# Altium footprint library 3_Pin_ScrewTerm.PcbLib: 1 footprints
Each footprint in its own frame and in the unit in brackets; x right, y up, seen from the top. Pads: shape width x height; smd on the part's side, far side on the other; paste and mask are expansions set on the pad; w line width, h text height; cw(c..) or ccw(c..) is an arc to the next point about the centre after c.
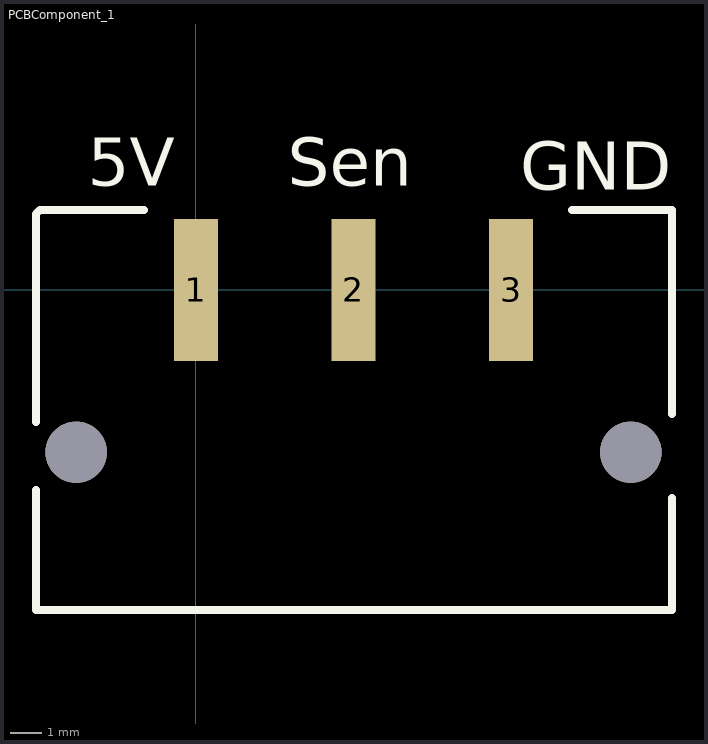
[diagram p0: the footprint, top view; thin cyan lines are the x and y axes]

## PCBComponent_1 [mm]
pads (5):
  rect 1.4x4.5 smd: 1(0,0) 2(5,0) 3(10,0)
  round 1.95 hole 1.95: ""(-3.8,-5.15) ""(13.8,-5.15)
Top Overlay:
  lines w0.254: -5.08,-6.35 -5.08,-10.16 15.113,-10.16 15.113,-6.604 ; -5.08,-4.191 -5.08,2.413 -4.953,2.54 -1.651,2.54 ; 11.938,2.54 15.113,2.54 15.113,-3.937
  text "GND" at 10.287,3.175 h1.52
  text "5V" at -3.429,3.302 h1.52
  text "Sen" at 2.921,3.302 h1.52
3D body "691709710303 (rev1).stp": height 10.95, standoff -1.75, extent -4.547,-9.757 14.453,1.793